# Altium integrated library MAX320CPA_.IntLib: 1 symbol
Pins are listed as number, name and electrical type; pins without a type are passive.

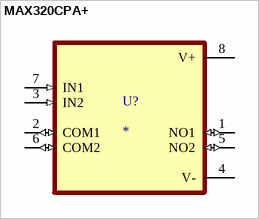
[diagram p0: symbol MAX320CPA+]

## MAX320CPA+
designator U?
Precision, Dual Supply, SPST, Analog CMOS Switches; MF: Analog Devices; MP: MAX320CPA+; SnapEDA_Link: https://www.snapeda.com/parts/MAX320CPA+/Analog+Devices/view-part/?ref=snap; Package: PDIP-8 Maxim; Value: *; Check_prices: https://www.snapeda.com/parts/MAX320CPA+/Analog+Devices/view-part/?ref=eda
footprint DIP794W47P254L991H457Q8
pins: 1 NO1 (io), 2 COM1 (io), 3 IN2 (in), 4 V- (power), 5 NO2 (io), 6 COM2 (io), 7 IN1 (in), 8 V+ (power)